# Altium schematic symbol library Inductor.SchLib: 3 symbols
Pins are listed as number, name and electrical type; pins without a type are passive.

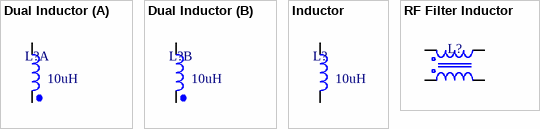
[diagram p0: symbols Dual Inductor to RF Filter Inductor]

## Dual Inductor
designator L?  value 10uH  (hidden comment: *)
Dual Wind Inductor; Part No.: DRQ74-XXX; Manufacturer: Cooper Bussmann; Vendor: Mouser; Price Est.: $1.18
footprint Coiltronics DRQ7X Dual (Cooper Bussmann Coiltronics DRQ Inductor (Dual Inductor Mode))
part A pins: 1, 3
part B pins: 2, 4

## Inductor
designator L?  value 10uH  (hidden comment: *)
Inductor
footprint 1007 (2518) BRACKET (Chip 2-Leads 0805 Bracket Silk Screen (2012))
footprint 0805 (2012) BRACKET (Chip 2-Leads 0805 Bracket Silk Screen (2012))
pins: 1, 2

## RF Filter Inductor
designator L?  (value not drawn)
Vendor: *; Manufacturer: *; Price Est.: *; Part No.: *
pins: 1, 2, 3, 4